# Altium schematic symbol library Components.SchLib: 24 symbols
Pins are listed as number, name and electrical type; pins without a type are passive.

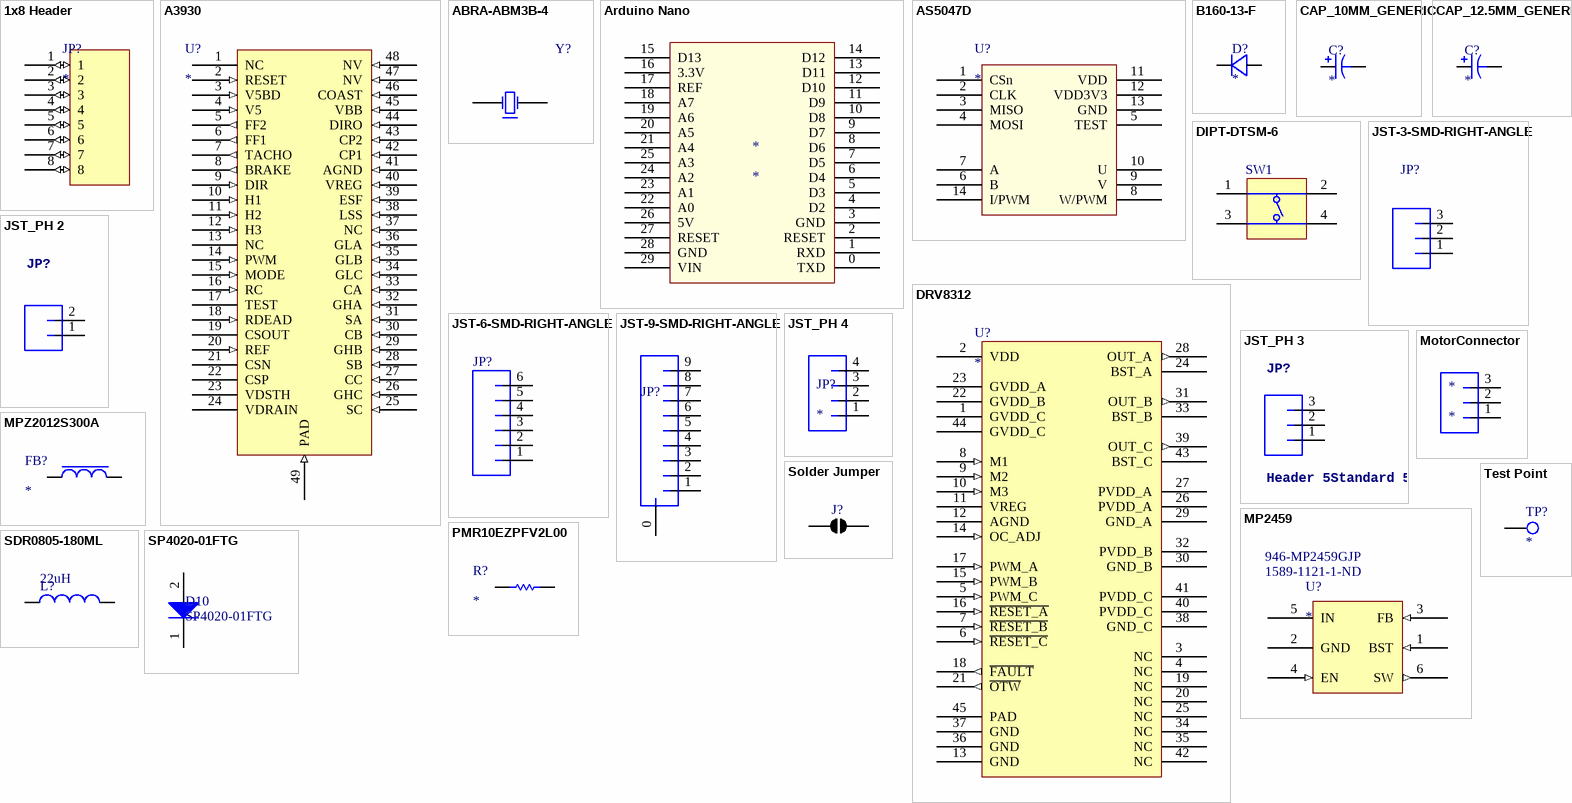
[diagram p0: symbols 1x8 Header to Test Point]

## 1x8 Header
designator JP?
Supplier 1: Arrow; Supplier 2: Arrow; Supplier 3: Digi-Key
footprint Header 8x1 8.5mm (Stackable 8 pin header)
pins: 1 (io), 2 (io), 3 (io), 4 (io), 5 (io), 6 (io), 7 (io), 8 (io)

## A3930
designator U?
footprint LQFP-48E
pins: 1 NC, 2 RESET (in), 3 V5BD (in), 4 V5 (in), 5 FF2 (out), 6 FF1 (out), 7 TACHO (out), 8 BRAKE (out), 9 DIR (in), 10 H1 (in), 11 H2 (in), 12 H3 (in), 13 NC, 14 PWM (in), 15 MODE (in), 16 RC (in), 17 TEST, 18 RDEAD (in), 19 CSOUT, 20 REF (in), 21 CSN, 22 CSP, 23 VDSTH, 24 VDRAIN, 25 SC (in), 26 GHC (in), 27 CC (in), 28 SB (in), 29 GHB (in), 30 CB (in), 31 SA (in), 32 GHA (in), 33 CA (in), 34 GLC (in), 35 GLB (in), 36 GLA (in), 37 NC (in), 38 LSS (in), 39 ESF (in), 40 VREG (in), 41 AGND (in), 42 CP1 (in), 43 CP2 (in), 44 DIRO (in), 45 VBB (in), 46 COAST (in), 47 NV (in), 48 NV (in), 49 PAD (in)

## ABRA-ABM3B-4
designator Y?
PartNumber: ABM3B-8.000MHZ-10-1UT; Manufacturer: ABRACON; Mounting Technology: Surface Mount; PackageReference: 2012; PackageDescription: 2012 (5032 metric)
footprint ABRA-ABM3B-4_V (SMT Crystal, 4-Leads, Body 5.2x3.4mm)
pins: 1 X1, 2, 3 X2

## Arduino Nano
designator *
footprint Arduino Nano
pins: 0 TXD, 1 RXD, 2 RESET, 3 GND, 4 D2, 5 D3, 6 D4, 7 D5, 8 D6, 9 D7, 10 D8, 11 D9, 12 D10, 13 D11, 14 D12, 15 D13, 16 3.3V, 17 REF, 18 A7, 19 A6, 20 A5, 21 A4, 22 A0, 23 A1, 24 A2, 25 A3, 26 5V, 27 RESET, 28 GND, 29 VIN

## AS5047D
designator U?
footprint TSSOP-14 (TSOP, 14-Leads, Body 5.00x4.40mm, Pitch 0.65mm, IPC Medium Density)
pins: 1 CSn, 2 CLK, 3 MISO, 4 MOSI, 5 TEST, 6 B, 7 A, 8 W/PWM, 9 V, 10 U, 11 VDD, 12 VDD3V3, 13 GND, 14 I/PWM

## B160-13-F
designator D?
Supplier 1: Digikey
footprint DO-214AC (Molded Diode, 2-Leads, Body 4.30x2.15mm, IPC Medium Density)
pins: 1 K, 2 A

## CAP_10MM_GENERIC
designator C?
Generic electrolytic capacitor w/ 10mm diameter and 5mm pitch
footprint CAP_10mm
pins: 0, 1

## CAP_12.5MM_GENERIC
designator C?
Generic electrolytic capacitor w/ 12.5mm diameter and 5mm pitch
footprint CAP_12.5mm
pins: 0, 1

## DIPT-DTSM-6
designator SW1
Switch, SPNO Push Button SMD; Manufacturer: C&K Components; PartNumber: PTS810 SJM 250 SMTR LFS; Packing Type: Tape&Reel; Mechanical Life: 200,000 cycles; ComponentLink2URL: http://www.dip.com.tw/Products_tact.htm; ComponentLink1URL: http://www.dip.com.tw/; ComponentLink3URL: http://www.dip.com.tw/PDF/pro_tact/DTSM_G_-6_2_-V.pdf; PackageDescription: Switch, Surface Mount, 4 Leads, Body 4.6x2.8mm, Height 1.9mm; ComponentLink2Description: Datasheet; ComponentLink3Description: Package Specification; ComponentLink1Description: Manufacturer URL; PackageReference: PTS810; Mounting Technology: Surface Mount
footprint SWITCH
pins: 1 T1, 2 T2, 3 T3, 4 T3

## DRV8312
designator U?
footprint HTSSOP-44E (TSOP, 44-Leads, Body 14.00x6.10mm, Pitch 0.64mm, Thermal Pad 8.26x4.31mm, IPC Medium Density)
pins: 1 GVDD_C (power), 2 VDD (power), 3 NC, 4 NC, 5 PWM_C (in), 6 ~{RESET_C} (in), 7 ~{RESET_B} (in), 8 M1 (in), 9 M2 (in), 10 M3 (in), 11 VREG (power), 12 AGND (power), 13 GND (power), 14 OC_ADJ (in), 15 PWM_B (in), 16 ~{RESET_A} (in), 17 PWM_A (in), 18 ~{FAULT} (out), 19 NC, 20 NC, 21 ~{OTW} (out), 22 GVDD_B (power), 23 GVDD_A (power), 24 BST_A (power), 25 NC, 26 PVDD_A (power), 27 PVDD_A (power), 28 OUT_A (out), 29 GND_A (power), 30 GND_B (power), 31 OUT_B (out), 32 PVDD_B (power), 33 BST_B (power), 34 NC, 35 NC, 36 GND (power), 37 GND (power), 38 GND_C (power), 39 OUT_C (out), 40 PVDD_C (power), 41 PVDD_C (power), 42 NC, 43 BST_C (power), 44 GVDD_C (power), 45 PAD (power)

## JST-3-SMD-RIGHT-ANGLE
designator JP?
Manufacturer: JST Sales America Inc.; PackageReference: JST-PH; Mounting Technology: Surface Mount
footprint JST-3-SMD-RIGHT-ANGLE
pins: 1, 2, 3

## JST-6-SMD-RIGHT-ANGLE
designator JP?
Manufacturer: JST Sales America Inc.; PackageReference: JST-PH; Mounting Technology: Surface Mount
footprint JST-6-SMD-RIGHT-ANGLE
pins: 1, 2, 3, 4, 5, 6

## JST-9-SMD-RIGHT-ANGLE
designator JP?
Manufacturer: JST Sales America Inc.; PackageReference: JST-PH; Mounting Technology: Surface Mount
footprint JST-9-SMD-RIGHT-ANGLE
pins: 0, 1, 2, 3, 4, 5, 6, 7, 8, 9

## JST_PH 2
designator JP?
footprint JST-2-PTH-VERT
pins: 1, 2

## JST_PH 3
designator JP?, comment Header 5Standard 5-pin 0.1" header. Use with straight break away headers (SKU : PRT-00116), right angle break away headers (PRT-00553), swiss pins (PRT-00743), machine pins (PRT-00117), and female headers (PRT-00115). Molex polarized connector foot print use with SKU : PRT-08230 with associated crimp pins and housings.
footprint JST-3-PTH-VERT
pins: 1, 2, 3

## JST_PH 4
designator JP?
footprint JST-4-PTH-VERT
footprint JST-4-SMD-RIGHT-ANGLE
footprint JST-4-PTH-RIGHT-ANGLE
pins: 1, 2, 3, 4

## MotorConnector
designator *
footprint MotorConnector
pins: 1, 2, 3

## MP2459
designator U?  Supplier Part Number 1: 1589-1121-1-ND  Supplier Part Number 2: 946-MP2459GJP
Supplier 1: Digikey; Supplier 2: Mouser
footprint TSOT23-6 (SOT23, 6-Leads, Body 2.90x2.80mm, Pitch 0.95mm, IPC Medium Density)
pins: 1 BST (in), 2 GND (power), 3 FB (in), 4 EN (in), 5 IN (power), 6 SW (out)

## MPZ2012S300A
designator FB?
footprint 0805-Ferrite (Chip Inductor, 2-Leads, Body 2.60x1.20mm, IPC High Density)
pins: 1, 2

## PMR10EZPFV2L00
designator R?
footprint 0805-SHUNT (Chip Resistor, 2-Leads, Body 2.00x1.10mm, IPC High Density)
pins: 1, 2

## SDR0805-180ML
designator L?  value 22uH
Inductor; Code_IEC: 1005; Published: 8-Jun-2000; LatestRevisionDate: 29-May-2009; LatestRevisionNote: IPC-7351 Footprint Added.; PackageReference: 0402-A; Publisher: Altium Limited; PackageDescription: Chip Inductor; Code_JEITA: 0402
simulation model INDUCTOR (Inductor)
signal-integrity model Inductor
footprint SDR0805-180ML
footprint IHLP-4040DZ-51
pins: 1, 2

## Solder Jumper
designator J?
footprint SOLDER JUMPER
pins: 1, 2

## SP4020-01FTG
designator D10
PartNumber: MMSZ5262BT1G; Manufacturer: On Semiconductor; P Max (W): 0.5; Packing: Tape and Reel; VZ Typ (V): 51; PackageVersion: Rev. G, 10/2009; ComponentLink3Description: Package Specification; PackageReference: SOD-123-2-425-04; PackageDescription: 2-Pin SOD, Body 1.6 x 2.69 mm; ComponentLink1Description: Manufacturer URL; ComponentLink2Description: Datasheet; DatasheetVersion: Rev. 12; Mounting Technology: Surface Mount; RoHS: Pb-Free; ComponentLink1URL: http://www.onsemi.com/; ComponentLink3URL: http://www.onsemi.com/pub_link/Collateral/425-04.PDF; ComponentLink2URL: http://www.onsemi.com/pub_link/Collateral/MMSZ5221BT1-D.PDF
footprint SOD323 (SODFL, 2-Leads, Body 1.30x2.57mm, IPC Medium Density)
pins: 1 K, 2 A

## Test Point
designator TP?
footprint TEST POINT
pins: 1